# Altium footprint library Inductor_SMD.PcbLib: 587 footprints (part 11 of 37)
Each footprint in its own frame and in the unit in brackets; x right, y up, seen from the top. Pads: shape width x height; smd on the part's side, far side on the other; paste and mask are expansions set on the pad; w line width, h text height; cw(c..) or ccw(c..) is an arc to the next point about the centre after c.
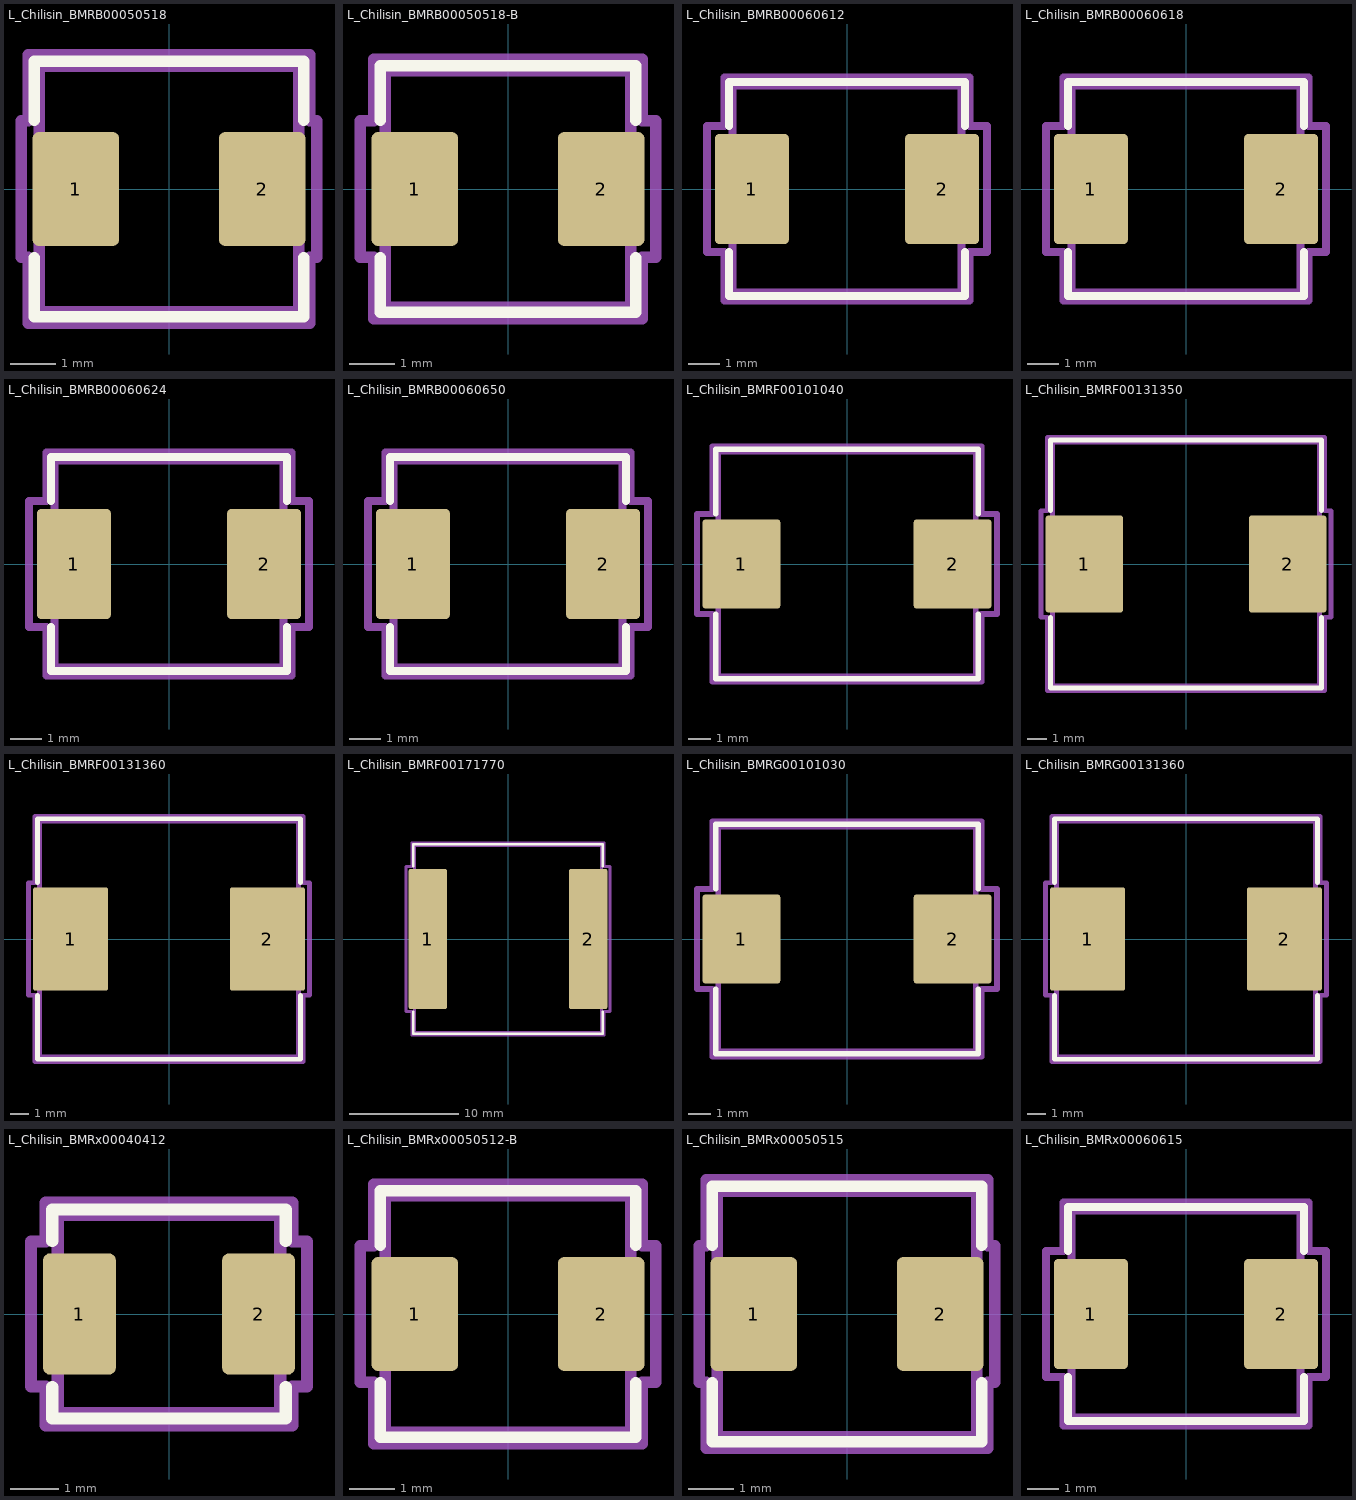
[diagram p10: the footprints below, top view; thin cyan lines are the x and y axes]

## L_Chilisin_BMRB00050518 [mm] "L_Chilisin_BMRB00050518"
pads (2):
  rrect13% 1.9x2.5 smd: 1(-2.05,0) 2(2.05,0)
F.SilkS:
  lines w0.254: -2.96,-1.51 -2.96,-2.81 2.96,-2.81 2.96,-1.51 ; -2.96,1.51 -2.96,2.81 2.96,2.81 2.96,1.51
Top Assembly:
  lines w0.254: -2.85,-2.7 -2.85,2.7 2.85,2.7 2.85,-2.7 -2.85,-2.7
  text "'.Designator'" at -4.047,-0.84 h1
Top Courtyard:
  lines w0.254: -3.25,-1.5 -3.25,1.5 -3.1,1.5 -3.1,2.95 3.1,2.95 3.1,1.5 3.25,1.5 3.25,-1.5 3.1,-1.5 3.1,-2.95 -3.1,-2.95 -3.1,-1.5 -3.25,-1.5
Top Designator:
  text ".Designator" at -7.768,-0.508 h1.52
3D body "L_Chilisin_BMRB00050518.step": height 1.8, standoff 0, extent -2.86,-2.7 2.86,2.7

## L_Chilisin_BMRB00050518-B [mm] "L_Chilisin_BMRB00050518-B"
pads (2):
  rrect13% 1.9x2.5 smd: 1(-2.05,0) 2(2.05,0)
F.SilkS:
  lines w0.254: -2.81,-1.51 -2.81,-2.71 2.81,-2.71 2.81,-1.51 ; -2.81,1.51 -2.81,2.71 2.81,2.71 2.81,1.51
Top Assembly:
  lines w0.254: -2.7,-2.6 2.7,-2.6 2.7,2.6 -2.7,2.6 -2.7,-2.6
  text "'.Designator'" at -4.047,-0.84 h1
Top Courtyard:
  lines w0.254: -3.25,-1.5 -2.95,-1.5 -2.95,-2.85 2.95,-2.85 2.95,-1.5 3.25,-1.5 3.25,1.5 2.95,1.5 2.95,2.85 -2.95,2.85 -2.95,1.5 -3.25,1.5 -3.25,-1.5
Top Designator:
  text ".Designator" at -7.768,-0.508 h1.52
3D body "L_Chilisin_BMRB00050518-B.step": height 1.6, standoff 0, extent -2.71,-2.6 2.71,2.6

## L_Chilisin_BMRB00060612 [mm] "L_Chilisin_BMRB00060612"
pads (2):
  rrect11% 2.35x3.5 smd: 1(-3.025,0) 2(3.025,0)
F.SilkS:
  lines w0.254: -3.76,-2.01 -3.76,-3.41 3.76,-3.41 3.76,-2.01 ; -3.76,2.01 -3.76,3.41 3.76,3.41 3.76,2.01
Top Assembly:
  lines w0.254: -3.65,-3.3 3.65,-3.3 3.65,3.3 -3.65,3.3 -3.65,-3.3
  text "'.Designator'" at -4.047,-0.84 h1
Top Courtyard:
  lines w0.254: -4.45,-2 -3.9,-2 -3.9,-3.55 3.9,-3.55 3.9,-2 4.45,-2 4.45,2 3.9,2 3.9,3.55 -3.9,3.55 -3.9,2 -4.45,2 -4.45,-2
Top Designator:
  text ".Designator" at -7.618,-0.508 h1.52
3D body "L_Chilisin_BMRB00060612.step": height 1.2, standoff 0, extent -3.655,-3.3 3.655,3.3

## L_Chilisin_BMRB00060618 [mm] "L_Chilisin_BMRB00060618"
pads (2):
  rrect11% 2.35x3.5 smd: 1(-3.025,0) 2(3.025,0)
F.SilkS:
  lines w0.254: -3.76,-2.01 -3.76,-3.41 3.76,-3.41 3.76,-2.01 ; -3.76,2.01 -3.76,3.41 3.76,3.41 3.76,2.01
Top Assembly:
  lines w0.254: -3.65,-3.3 -3.65,3.3 3.65,3.3 3.65,-3.3 -3.65,-3.3
  text "'.Designator'" at -4.047,-0.84 h1
Top Courtyard:
  lines w0.254: -4.45,-2 -4.45,2 -3.9,2 -3.9,3.55 3.9,3.55 3.9,2 4.45,2 4.45,-2 3.9,-2 3.9,-3.55 -3.9,-3.55 -3.9,-2 -4.45,-2
Top Designator:
  text ".Designator" at -7.618,-0.508 h1.52
3D body "L_Chilisin_BMRB00060618.step": height 1.6, standoff 0, extent -3.655,-3.3 3.655,3.3

## L_Chilisin_BMRB00060624 [mm] "L_Chilisin_BMRB00060624"
pads (2):
  rrect11% 2.35x3.5 smd: 1(-3.025,0) 2(3.025,0)
F.SilkS:
  lines w0.254: -3.76,-2.01 -3.76,-3.41 3.76,-3.41 3.76,-2.01 ; -3.76,2.01 -3.76,3.41 3.76,3.41 3.76,2.01
Top Assembly:
  lines w0.254: -3.65,-3.3 -3.65,3.3 3.65,3.3 3.65,-3.3 -3.65,-3.3
  text "'.Designator'" at -4.047,-0.84 h1
Top Courtyard:
  lines w0.254: -4.45,-2 -4.45,2 -3.9,2 -3.9,3.55 3.9,3.55 3.9,2 4.45,2 4.45,-2 3.9,-2 3.9,-3.55 -3.9,-3.55 -3.9,-2 -4.45,-2
Top Designator:
  text ".Designator" at -7.618,-0.508 h1.52
3D body "L_Chilisin_BMRB00060624.step": height 2.4, standoff 0, extent -3.655,-3.3 3.655,3.3

## L_Chilisin_BMRB00060650 [mm] "L_Chilisin_BMRB00060650"
pads (2):
  rrect11% 2.35x3.5 smd: 1(-3.025,0) 2(3.025,0)
F.SilkS:
  lines w0.254: -3.76,-2.01 -3.76,-3.41 3.76,-3.41 3.76,-2.01 ; -3.76,2.01 -3.76,3.41 3.76,3.41 3.76,2.01
Top Assembly:
  lines w0.254: -3.65,-3.3 3.65,-3.3 3.65,3.3 -3.65,3.3 -3.65,-3.3
  text "'.Designator'" at -4.047,-0.84 h1
Top Courtyard:
  lines w0.254: -4.45,-2 -3.9,-2 -3.9,-3.55 3.9,-3.55 3.9,-2 4.45,-2 4.45,2 3.9,2 3.9,3.55 -3.9,3.55 -3.9,2 -4.45,2 -4.45,-2
Top Designator:
  text ".Designator" at -7.618,-0.508 h1.52
3D body "L_Chilisin_BMRB00060650.step": height 5, standoff 0, extent -3.655,-3.3 3.655,3.3

## L_Chilisin_BMRF00101040 [mm] "L_Chilisin_BMRF00101040"
pads (2):
  rrect7% 3.5x4 smd: 1(-4.75,0) 2(4.75,0)
F.SilkS:
  lines w0.254: -5.91,-2.26 -5.91,-5.16 5.91,-5.16 5.91,-2.26 ; -5.91,2.26 -5.91,5.16 5.91,5.16 5.91,2.26
Top Assembly:
  lines w0.254: -5.8,-5.05 5.8,-5.05 5.8,5.05 -5.8,5.05 -5.8,-5.05
  text "'.Designator'" at -4.047,-0.84 h1
Top Courtyard:
  lines w0.254: -6.75,-2.25 -6.05,-2.25 -6.05,-5.3 6.05,-5.3 6.05,-2.25 6.75,-2.25 6.75,2.25 6.05,2.25 6.05,5.3 -6.05,5.3 -6.05,2.25 -6.75,2.25 -6.75,-2.25
Top Designator:
  text ".Designator" at -7.618,-0.508 h1.52
3D body "L_Chilisin_BMRF00101040.step": height 4, standoff 0, extent -5.805,-5.05 5.805,5.05

## L_Chilisin_BMRF00131350 [mm] "L_Chilisin_BMRF00131350"
pads (2):
  rrect6% 4x5 smd: 1(-5.25,0) 2(5.25,0)
F.SilkS:
  lines w0.254: -7.01,-2.76 -7.01,-6.41 7.01,-6.41 7.01,-2.76 ; -7.01,2.76 -7.01,6.41 7.01,6.41 7.01,2.76
Top Assembly:
  lines w0.254: -6.9,-6.3 6.9,-6.3 6.9,6.3 -6.9,6.3 -6.9,-6.3
  text "'.Designator'" at -4.047,-0.84 h1
Top Courtyard:
  lines w0.254: -7.5,-2.75 -7.15,-2.75 -7.15,-6.55 7.15,-6.55 7.15,-2.75 7.5,-2.75 7.5,2.75 7.15,2.75 7.15,6.55 -7.15,6.55 -7.15,2.75 -7.5,2.75 -7.5,-2.75
Top Designator:
  text ".Designator" at -7.618,-0.508 h1.52
3D body "L_Chilisin_BMRF00131350.step": height 5, standoff 0, extent -6.905,-6.3 6.905,6.3

## L_Chilisin_BMRF00131360 [mm] "L_Chilisin_BMRF00131360"
pads (2):
  rrect6% 4x5.5 smd: 1(-5.25,0) 2(5.25,0)
F.SilkS:
  lines w0.254: -7.01,-3.01 -7.01,-6.41 7.01,-6.41 7.01,-3.01 ; -7.01,3.01 -7.01,6.41 7.01,6.41 7.01,3.01
Top Assembly:
  lines w0.254: -6.9,-6.3 -6.9,6.3 6.9,6.3 6.9,-6.3 -6.9,-6.3
  text "'.Designator'" at -4.047,-0.84 h1
Top Courtyard:
  lines w0.254: -7.5,-3 -7.5,3 -7.15,3 -7.15,6.55 7.15,6.55 7.15,3 7.5,3 7.5,-3 7.15,-3 7.15,-6.55 -7.15,-6.55 -7.15,-3 -7.5,-3
Top Designator:
  text ".Designator" at -7.618,-0.508 h1.52
3D body "L_Chilisin_BMRF00131360.step": height 5.8, standoff 0, extent -6.905,-6.3 6.905,6.3

## L_Chilisin_BMRF00171770 [mm] "L_Chilisin_BMRF00171770"
pads (2):
  rrect7% 3.5x12.8 smd: 1(-7.35,0) 2(7.35,0)
F.SilkS:
  lines w0.254: -8.685,-6.66 -8.685,-8.685 8.685,-8.685 8.685,-6.66 ; -8.685,6.66 -8.685,8.685 8.685,8.685 8.685,6.66
Top Assembly:
  lines w0.254: -8.575,-8.575 -8.575,8.575 8.575,8.575 8.575,-8.575 -8.575,-8.575
  text "'.Designator'" at -4.047,-0.84 h1
Top Courtyard:
  lines w0.254: -9.35,-6.65 -9.35,6.65 -8.83,6.65 -8.83,8.83 8.83,8.83 8.83,6.65 9.35,6.65 9.35,-6.65 8.83,-6.65 8.83,-8.83 -8.83,-8.83 -8.83,-6.65 -9.35,-6.65
Top Designator:
  text ".Designator" at -7.618,-0.508 h1.52
3D body "L_Chilisin_BMRF00171770.step": height 6.8, standoff 0, extent -8.58,-8.575 8.58,8.575

## L_Chilisin_BMRG00101030 [mm] "L_Chilisin_BMRG00101030"
pads (2):
  rrect7% 3.5x4 smd: 1(-4.75,0) 2(4.75,0)
F.SilkS:
  lines w0.254: -5.91,-2.26 -5.91,-5.16 5.91,-5.16 5.91,-2.26 ; -5.91,2.26 -5.91,5.16 5.91,5.16 5.91,2.26
Top Assembly:
  lines w0.254: -5.8,-5.05 5.8,-5.05 5.8,5.05 -5.8,5.05 -5.8,-5.05
  text "'.Designator'" at -4.047,-0.84 h1
Top Courtyard:
  lines w0.254: -6.75,-2.25 -6.05,-2.25 -6.05,-5.3 6.05,-5.3 6.05,-2.25 6.75,-2.25 6.75,2.25 6.05,2.25 6.05,5.3 -6.05,5.3 -6.05,2.25 -6.75,2.25 -6.75,-2.25
Top Designator:
  text ".Designator" at -7.618,-0.508 h1.52
3D body "L_Chilisin_BMRG00101030.step": height 3, standoff 0, extent -5.805,-5.05 5.805,5.05

## L_Chilisin_BMRG00131360 [mm] "L_Chilisin_BMRG00131360"
pads (2):
  rrect6% 4x5.5 smd: 1(-5.25,0) 2(5.25,0)
F.SilkS:
  lines w0.254: -7.01,-3.01 -7.01,-6.41 7.01,-6.41 7.01,-3.01 ; -7.01,3.01 -7.01,6.41 7.01,6.41 7.01,3.01
Top Assembly:
  lines w0.254: -6.9,-6.3 6.9,-6.3 6.9,6.3 -6.9,6.3 -6.9,-6.3
  text "'.Designator'" at -4.047,-0.84 h1
Top Courtyard:
  lines w0.254: -7.5,-3 -7.15,-3 -7.15,-6.55 7.15,-6.55 7.15,-3 7.5,-3 7.5,3 7.15,3 7.15,6.55 -7.15,6.55 -7.15,3 -7.5,3 -7.5,-3
Top Designator:
  text ".Designator" at -7.618,-0.508 h1.52
3D body "L_Chilisin_BMRG00131360.step": height 6, standoff 0, extent -6.905,-6.3 6.905,6.3

## L_Chilisin_BMRx00040412 [mm] "L_Chilisin_BMRx00040412"
pads (2):
  rrect17% 1.5x2.5 smd: 1(-1.85,0) 2(1.85,0)
F.SilkS:
  lines w0.254: -2.41,-1.51 -2.41,-2.16 2.41,-2.16 2.41,-1.51 ; -2.41,1.51 -2.41,2.16 2.41,2.16 2.41,1.51
Top Assembly:
  lines w0.254: -2.3,-2.05 2.3,-2.05 2.3,2.05 -2.3,2.05 -2.3,-2.05
  text "'.Designator'" at -4.047,-0.84 h1
Top Courtyard:
  lines w0.254: -2.85,-1.5 -2.55,-1.5 -2.55,-2.3 2.55,-2.3 2.55,-1.5 2.85,-1.5 2.85,1.5 2.55,1.5 2.55,2.3 -2.55,2.3 -2.55,1.5 -2.85,1.5 -2.85,-1.5
Top Designator:
  text ".Designator" at -7.768,-0.508 h1.52
3D body "L_Chilisin_BMRx00040412.step": height 1.2, standoff 0, extent -2.31,-2.05 2.31,2.05

## L_Chilisin_BMRx00050512-B [mm] "L_Chilisin_BMRx00050512-B"
pads (2):
  rrect13% 1.9x2.5 smd: 1(-2.05,0) 2(2.05,0)
F.SilkS:
  lines w0.254: -2.81,-1.51 -2.81,-2.71 2.81,-2.71 2.81,-1.51 ; -2.81,1.51 -2.81,2.71 2.81,2.71 2.81,1.51
Top Assembly:
  lines w0.254: -2.7,-2.6 -2.7,2.6 2.7,2.6 2.7,-2.6 -2.7,-2.6
  text "'.Designator'" at -4.047,-0.84 h1
Top Courtyard:
  lines w0.254: -3.25,-1.5 -3.25,1.5 -2.95,1.5 -2.95,2.85 2.95,2.85 2.95,1.5 3.25,1.5 3.25,-1.5 2.95,-1.5 2.95,-2.85 -2.95,-2.85 -2.95,-1.5 -3.25,-1.5
Top Designator:
  text ".Designator" at -7.768,-0.508 h1.52
3D body "L_Chilisin_BMRx00050512-B.step": height 1.2, standoff 0, extent -2.71,-2.6 2.71,2.6

## L_Chilisin_BMRx00050515 [mm] "L_Chilisin_BMRx00050515"
pads (2):
  rrect13% 1.9x2.5 smd: 1(-2.05,0) 2(2.05,0)
F.SilkS:
  lines w0.254: -2.96,-1.51 -2.96,-2.81 2.96,-2.81 2.96,-1.51 ; -2.96,1.51 -2.96,2.81 2.96,2.81 2.96,1.51
Top Assembly:
  lines w0.254: -2.85,-2.7 -2.85,2.7 2.85,2.7 2.85,-2.7 -2.85,-2.7
  text "'.Designator'" at -4.047,-0.84 h1
Top Courtyard:
  lines w0.254: -3.25,-1.5 -3.25,1.5 -3.1,1.5 -3.1,2.95 3.1,2.95 3.1,1.5 3.25,1.5 3.25,-1.5 3.1,-1.5 3.1,-2.95 -3.1,-2.95 -3.1,-1.5 -3.25,-1.5
Top Designator:
  text ".Designator" at -7.768,-0.508 h1.52
3D body "L_Chilisin_BMRx00050515.step": height 1.5, standoff 0, extent -2.86,-2.7 2.86,2.7

## L_Chilisin_BMRx00060615 [mm] "L_Chilisin_BMRx00060615"
pads (2):
  rrect11% 2.35x3.5 smd: 1(-3.025,0) 2(3.025,0)
F.SilkS:
  lines w0.254: -3.76,-2.01 -3.76,-3.41 3.76,-3.41 3.76,-2.01 ; -3.76,2.01 -3.76,3.41 3.76,3.41 3.76,2.01
Top Assembly:
  lines w0.254: -3.65,-3.3 3.65,-3.3 3.65,3.3 -3.65,3.3 -3.65,-3.3
  text "'.Designator'" at -4.047,-0.84 h1
Top Courtyard:
  lines w0.254: -4.45,-2 -3.9,-2 -3.9,-3.55 3.9,-3.55 3.9,-2 4.45,-2 4.45,2 3.9,2 3.9,3.55 -3.9,3.55 -3.9,2 -4.45,2 -4.45,-2
Top Designator:
  text ".Designator" at -7.618,-0.508 h1.52
3D body "L_Chilisin_BMRx00060615.step": height 1.3, standoff 0, extent -3.655,-3.3 3.655,3.3